# Altium footprint library PCB - CONNECTOR - MOLEX - MOLEX 395021005.PcbLib: 1 footprints
Each footprint in its own frame and in the unit in brackets; x right, y up, seen from the top. Pads: shape width x height; smd on the part's side, far side on the other; paste and mask are expansions set on the pad; w line width, h text height; cw(c..) or ccw(c..) is an arc to the next point about the centre after c.
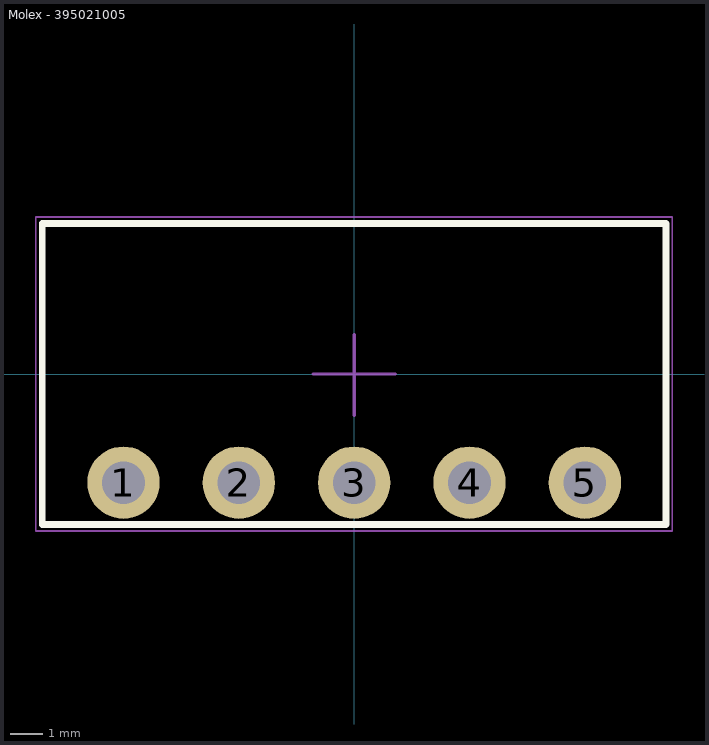
[diagram p0: the footprint, top view; thin cyan lines are the x and y axes]

## Molex - 395021005 [mm] "5 Position Terminal Block Header, Male Pins, 3.5mm Pitch,18.95mmx9.2mm Body, 90°, Right Angle, THT"
height 7.3
pads (5):
  round 2.2 hole 1.295: 1(-7.011,-3.302) 2(-3.506,-3.302) 3(0,-3.302) 4(3.505,-3.302) 5(7.01,-3.302)
Top Overlay:
  lines w0.2: -9.474,-4.572 9.475,-4.572 9.475,4.572 -9.474,4.572 -9.474,-4.572
Mechanical 13:
  lines w0.1: -9.474,-4.572 -9.474,4.572 9.475,4.572 9.475,-4.572 -9.474,-4.572
Mechanical 15 (Mech15):
  lines w0.05: -9.674,-4.772 9.662,-4.772 9.662,4.772 -9.674,4.772 -9.674,-4.772
  lines w0.1: -1.25,0 0,0 ; 0,-1.25 0,0 ; 0,1.2 0,0 ; 1.25,0 0,0
3D body "Molex - 395021005 v1.step": height 7.11, standoff -3.56, extent -9.474,-4.572 9.475,4.572